# EAGLE library part AQS210T2S (library relay)
PhotoMOS Relay NAiS source: http://www.mew-europe.com/.. pti_en.pdf
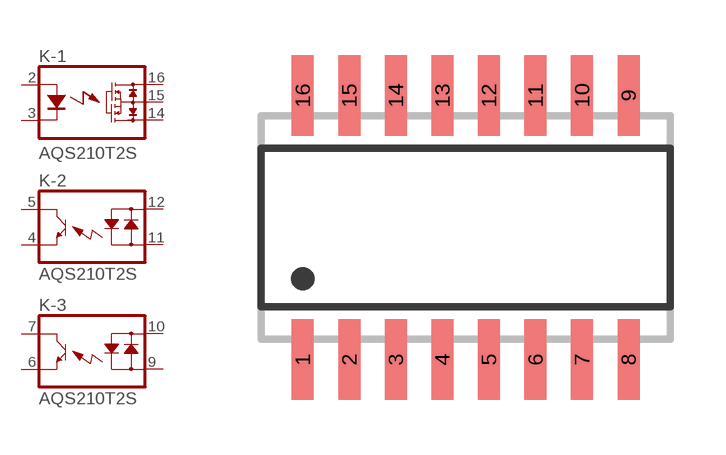
[diagram p44: symbol with the pads of SOP16; footprint SOP16]

Designator prefix K; gates -1=PHOTO-RELAY-2D1S -2=PHOTO-DETECTOR -3=PHOTO-DETECTOR

## AQS210T2S  [SOP16]
2  -1:A  pas
3  -1:K  pas
4  -2:E  pas
5  -2:K  pas
6  -3:E  pas
7  -3:K  pas
9  -3:AC2  pas
10  -3:AC1  pas
11  -2:AC2  pas
12  -2:AC1  pas
14  -1:D2  pas
15  -1:S  pas
16  -1:D1  pas

## Footprint SOP16 (pad centres in mm)
SMALL OUTLINE PACKAGE
smd 0.6 x 2.2: 1 -4.445,-3.6; 2 -3.175,-3.6; 3 -1.905,-3.6; 4 -0.635,-3.6; 5 0.635,-3.6; 6 1.905,-3.6; 7 3.175,-3.6; 8 4.445,-3.6; 9 4.445,3.6; 10 3.175,3.6; 11 1.905,3.6; 12 0.635,3.6; 13 -0.635,3.6; 14 -1.905,3.6; 15 -3.175,3.6; 16 -4.445,3.6